# EAGLE library part DOGM204-A (library Public)
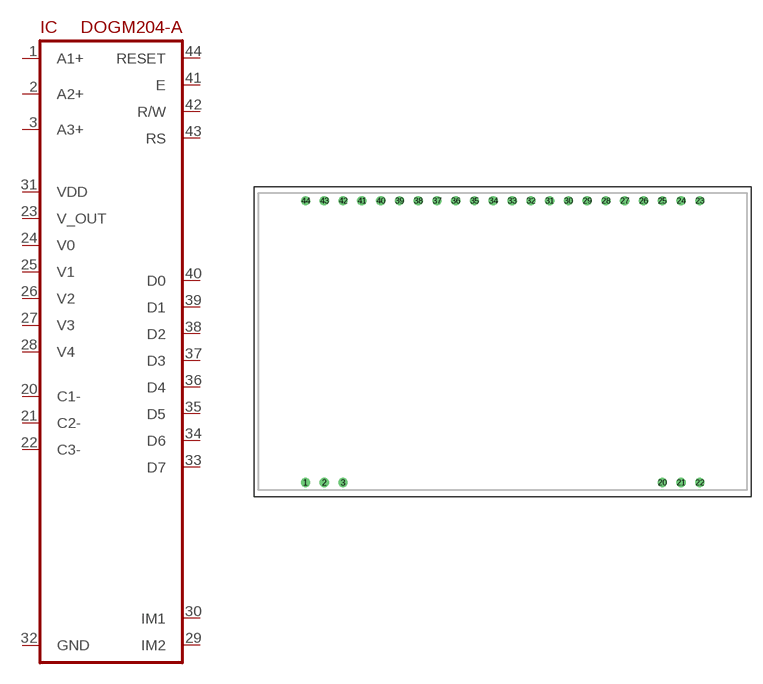
[diagram p128: symbol with the pads of DOGM204-A; footprint DOGM204-A]

Designator prefix IC

## DOGM204-A  [DOGM204-A]
1  A1+
2  A2+
3  A3+
20  C1-
21  C2-
22  C3-
23  V_OUT
24  V0
25  V1
26  V2
27  V3
28  V4
29  IM2
30  IM1
31  VDD
32  GND
33  D7
34  D6
35  D5
36  D4
37  D3
38  D2
39  D1
40  D0
41  E
42  R/W
43  RS
44  RESET

## Footprint DOGM204-A (pad centres in mm)
drill 0.75: 1 -26.67,-19.05; 2 -24.13,-19.05; 3 -21.59,-19.05; 20 21.59,-19.05; 21 24.13,-19.05; 22 26.67,-19.05; 23 26.67,19.05; 24 24.13,19.05; 25 21.59,19.05; 26 19.05,19.05; 27 16.51,19.05; 28 13.97,19.05; 29 11.43,19.05; 30 8.89,19.05; 31 6.35,19.05; 32 3.81,19.05; 33 1.27,19.05; 34 -1.27,19.05; 35 -3.81,19.05; 36 -6.35,19.05; 37 -8.89,19.05; 38 -11.43,19.05; 39 -13.97,19.05; 40 -16.51,19.05; 41 -19.05,19.05; 42 -21.59,19.05; 43 -24.13,19.05; 44 -26.67,19.05